# EAGLE library part INSECTCHIP3B_COB (library harrison)
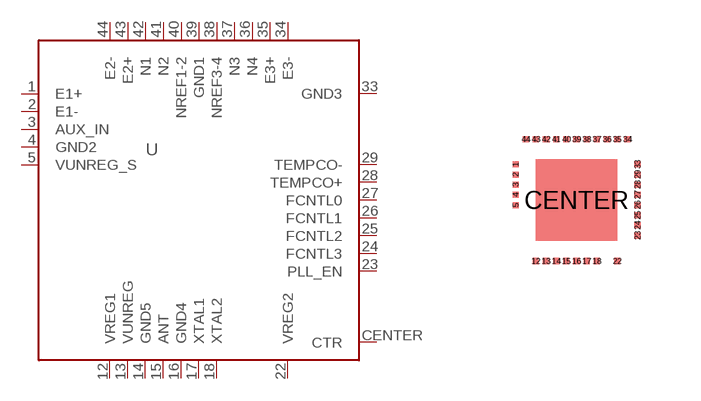
[diagram p64: symbol with the pads of INSECTCHIP3B_COB_1; footprint INSECTCHIP3B_COB_1]

Designator prefix U

## INSECTCHIP3B_COB_1  [INSECTCHIP3B_COB_1]
1  E1+  in
2  E1-  in
3  AUX_IN  in
4  GND2  pwr
5  VUNREG_S  pwr
12  VREG1  pwr
13  VUNREG  pwr
14  GND5  pwr
15  ANT  pas
16  GND4  pwr
17  XTAL1  pas
18  XTAL2  pas
22  VREG2  pwr
23  PLL_EN  in
24  FCNTL3  in
25  FCNTL2  in
26  FCNTL1  in
27  FCNTL0  in
28  TEMPCO+  pas
29  TEMPCO-  pas
33  GND3  pwr
34  E3-  in
35  E3+  in
36  N4  in
37  N3  in
38  NREF3-4  in
39  GND1  pwr
40  NREF1-2  in
41  N2  in
42  N1  in
43  E2+  in
44  E2-  in
CENTER  CTR  pwr

## Footprint INSECTCHIP3B_COB_1 (pad centres in mm)
smd 0.152 x 0.152: 1 -1.524,0.889; 2 -1.524,0.635; 3 -1.524,0.381; 4 -1.524,0.127; 5 -1.524,-0.127; 12 -1.016,-1.524; 13 -0.762,-1.524; 14 -0.508,-1.524; 15 -0.254,-1.524; 16 0,-1.524; 17 0.254,-1.524; 18 0.508,-1.524; 22 1.016,-1.524; 23 1.524,-0.889; 24 1.524,-0.635; 25 1.524,-0.381; 26 1.524,-0.127; 27 1.524,0.127; 28 1.524,0.381; 29 1.524,0.635; 33 1.524,0.889; 34 1.27,1.524; 35 1.016,1.524; 36 0.762,1.524; 37 0.508,1.524; 38 0.254,1.524; 39 0,1.524; 40 -0.254,1.524; 41 -0.508,1.524; 42 -0.762,1.524; 43 -1.016,1.524; 44 -1.27,1.524
smd 2.032 x 2.032: CENTER 0,0